# EAGLE library part MC34063A (library Bits_library_eagle)
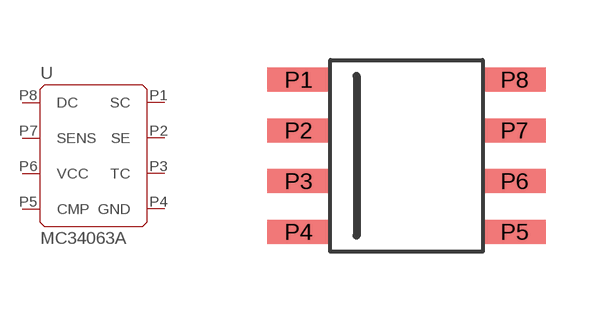
[diagram p53: symbol with the pads of SOIC-8; footprint SOIC-8]

Designator prefix -

## MC34063A  [SOIC-8]
P1  SC
P2  SE
P3  TC  pwr
P4  GND  pwr
P5  CMP  in
P6  VCC  pwr
P7  SENS  in
P8  DC

## Footprint SOIC-8 (pad centres in mm)
smd 1.55 x 0.6: P1 -2.7,1.905; P2 -2.7,0.635; P3 -2.7,-0.635; P4 -2.7,-1.905; P5 2.7,-1.905; P6 2.7,-0.635; P7 2.7,0.635; P8 2.7,1.905